# Altium footprint library USB480003A.PcbLib: 1 footprints
Each footprint in its own frame and in the unit in brackets; x right, y up, seen from the top. Pads: shape width x height; smd on the part's side, far side on the other; paste and mask are expansions set on the pad; w line width, h text height; cw(c..) or ccw(c..) is an arc to the next point about the centre after c.
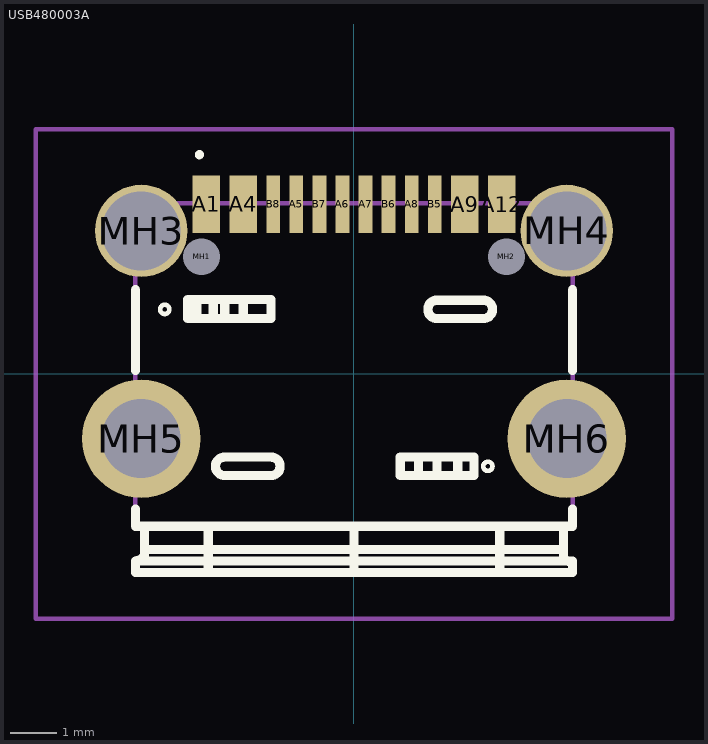
[diagram p0: the footprint, top view; thin cyan lines are the x and y axes]

## USB480003A [mm]
pads (18):
  rect 0.6x1.25 smd: A1(-3.2,3.675) A4(-2.4,3.675) A9(2.4,3.675) A12(3.2,3.675)
  rect 0.3x1.25 smd: A5(-1.25,3.675) A6(-0.25,3.675) A7(0.25,3.675) A8(1.25,3.675) B5(1.75,3.675) B6(0.75,3.675) B7(-0.75,3.675) B8(-1.75,3.675)
  round 0.4 hole 0.8 unplated: MH1(-3.3,2.54) MH2(3.3,2.54)
  round 2 hole 1.71: MH3(-4.61,3.1) MH4(4.61,3.1)
  round 2.565 hole 1.71: MH5(-4.61,-1.4) MH6(4.61,-1.4)
Top Overlay:
  lines w0.1: -4.2,1.4 -4.2,1.4 ; -4.2,1.4 ccw(c-4.1,1.4) -4,1.4 ; -4.2,1.4 cw(c-4.1,1.4) -4,1.4 ; -4,1.4 -4,1.4 ; -3.35,4.7 cw(c-3.35,4.75) -3.35,4.8 ; -3.35,4.7 -3.35,4.7 ; -3.35,4.7 ccw(c-3.35,4.75) -3.35,4.8 ; -3.35,4.8 -3.35,4.8 ; 2.8,-2 cw(c2.9,-2) 3,-2 ; 2.8,-2 2.8,-2 ; 2.8,-2 ccw(c2.9,-2) 3,-2 ; 3,-2 3,-2
  lines w0.2: -4.735,-2.925 -4.735,-3.3 4.735,-3.3 4.735,-2.925 ; -4.735,0.075 -4.735,1.825 ; -4.538,-3.8 4.538,-3.8 ; -4.538,-3.3 -4.538,-3.925 cw(c-4.735,-3.832) -4.735,-4.05 ; -3.6,1.613 -1.8,1.613 -1.8,1.2 -3.6,1.2 -3.6,1.6 -3.4,1.6 -3.4,1.2 ; -3.157,-4.3 -3.157,-3.3 ; -3.05,1.2 -3.05,1.613 ; -2.8,1.2 -2.8,1.6 ; -2.4,1.2 -2.4,1.6 ; 0,-4.3 0,-3.3 ; 1.4,-2.2 1.4,-1.8 ; 1.8,-2.2 1.8,-1.8 ; 2.25,-2.2 2.25,-1.8 ; 3.157,-4.3 3.157,-3.3 ; 4.538,-3.3 4.538,-3.925 ; 4.735,0.075 4.735,1.825 ; -4.735,-4.05 -4.735,-4.05 ; -4.735,-4.05 -4.735,-4.05 ; -4.735,-4.05 -0.986,-4.05 4.735,-4.05 ; -4.735,-4.05 -4.735,-4.3 4.735,-4.3 4.735,-4.05 ; -2.8,-1.8 -1.8,-1.8 cw(c-1.8,-2) -1.8,-2.2 ; -2.8,-1.8 -2.8,-1.8 ; -2.8,-1.8 ccw(c-2.8,-2) -2.8,-2.2 -1.8,-2.2 ; -1.8,-2.2 -1.8,-2.2 ; 1.8,1.6 2.8,1.6 cw(c2.8,1.4) 2.8,1.2 ; 1.8,1.6 1.8,1.6 ; 1.8,1.6 ccw(c1.8,1.4) 1.8,1.2 2.8,1.2 ; 2.8,1.2 2.8,1.2 ; 4.538,-3.925 4.538,-3.925 ; 4.538,-3.925 ccw(c4.676,-3.925) 4.735,-4.05 ; 1,-2.2 2.4,-2.2 2.6,-2.2 2.6,-1.8 1,-1.8 1,-2.2
Mechanical 15:
  lines w0.1: -4.538,-4.3 -4.735,-4.3 ; -4.538,-3.8 4.538,-3.8 ; -4.538,-3.3 -4.538,-3.925 cw(c-4.735,-3.832) -4.735,-4.05 ; -4.735,-4.3 4.735,-4.3 4.735,-4.05 -4.735,-4.05 ; -4.735,-4.3 -4.735,-4.05 ; -4.735,-4.05 -4.735,-4.05 ; -4.735,-4.05 -4.735,-4.05 ; -4.735,-3.3 4.735,-3.3 4.735,3.7 -4.735,3.7 -4.735,-3.3
Mechanical 20:
  lines w0.1: -6.893,-5.3 6.893,-5.3 6.893,5.3 -6.893,5.3 -6.893,-5.3